# Altium schematic symbol library sm_diode.SchLib: 23 symbols
Pins are listed as number, name and electrical type; pins without a type are passive.

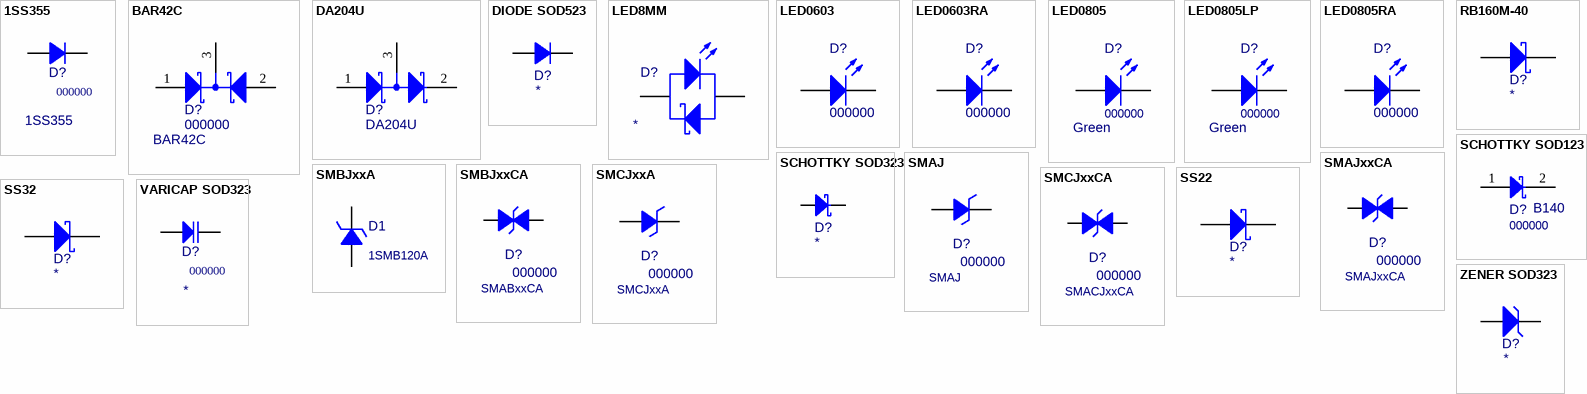
[diagram p0: symbols 1SS355 to ZENER SOD323]

## 1SS355
designator D?, comment 000000  value 1SS355
Schottky Barrier Diode; PN: 000000; Package: SOD-323; ExtraInfo: *
footprint SOD-323 (Molded Diode, 2-Leads)
pins: 1 A, 2 K

## BAR42C
designator D?, comment 000000  value BAR42C
Schottky Barrier Double Diode; PN: 000000; Package: SOT-23; ExtraInfo: *
footprint SOT-23 (SOT23, 3-Leads, Body 3.0x2.8mm (max), Pitch 0.95mm, IPC High Density)
pins: 1 A1, 2 A2, 3 K

## DA204U
designator D?
Schottky Barrier Double Diode; Value: DA204U; PN: *; Package: *; ExtraInfo: *
footprint SOT-323 (SC-70/SOT323)
pins: 1 A1, 2 A2, 3 K

## DIODE SOD523
designator D?
Diode SOD53 Package; PN: *; Value: *; Package: *; ExtraInfo: *
footprint SOD-523 (Molded Diode, 2-Leads)
pins: 1 A, 2 K

## LED8MM
designator D?
LED SMD 8MM; Package: *; PN: *; Value: *; ExtraInfo: *
footprint LED0805 (Chip LED 0805)
footprint LED-8MM (SMD LED ROUND 8MM)
footprint LED-8MM-B (SMD LED ROUND 8MM SLUG INSULATED)
pins: 1 A, 2 K

## LED0603
designator D?, comment 000000
LED SMD 0603; Value: LED0603; PN: 000000; Package: 0603; ExtraInfo: *
footprint LED0603M (Chip LED 0603 - Medium Density)
footprint LED0603H (Chip LED 0603 - High Density)
pins: 1 A, 2 K

## LED0603RA
designator D?, comment 000000
LED SMD 0603; Value: LED0603; PN: 000000; Package: 0603; ExtraInfo: *; MF: *; MF PN: *
footprint LED0603-GREEN-RA-M (Chip LED 0603 - Right Angle - Medium Density)
footprint LED0603-RED-RA-M (Chip LED 0603 - Right Angle - Medium Density)
pins: 1 A, 2 K

## LED0805
designator D?, comment 000000  value Green
LED SMD 0805; Package: 0805; PN: 000000; ExtraInfo: *
footprint LED0805 (Chip LED 0805)
footprint LED0805L (Chip LED 0805 - Low Density)
pins: 1 A, 2 K

## LED0805LP
designator D?, comment 000000  value Green
LED SMD 0805 Whit Light Pipe; Package: 0805; PN: 000000; ExtraInfo: *
footprint LED0805L LP (Chip LED 0805 - With Light Pipe - Low Density)
pins: 1 A, 2 K

## LED0805RA
designator D?, comment 000000
LED SMD 0805 Right Angle; Value: Green; PN: 000000; Package: 0805; ExtraInfo: *
footprint LED0805 (Chip LED 0805)
footprint LED0805-RA-L (Chip LED 0805 - Right Angle, Low Density)
pins: 1 A, 2 K

## RB160M-40
designator D?
Schottky Barrier Diode; Value: RB160M-40; PN: *; Package: *; ExtraInfo: *
footprint SOD-123 (Molded Diode, 2-Leads)
pins: 1 A, 2 K

## SCHOTTKY SOD123
designator D?, comment 000000  value B140
Schottky Barrier Diode SOD 123 Package; Package: SOD123; PN: 000000; ExtraInfo: *
footprint SOD-123 (Molded Diode, 2-Leads)
pins: 1 A, 2 K

## SCHOTTKY SOD323
designator D?
Schottky Barrier Diode SOD 323 Package; PN: *; Package: *; ExtraInfo: *
footprint SOD-323 (Molded Diode, 2-Leads)
pins: 1 A, 2 K

## SMAJ
designator D?, comment 000000  value SMAJ
SMT Transiet Voltage Suppressor; PN: 000000; Package: SMA; ExtraInfo: *
footprint DO-214AC (Molded Diode, 2-Leads, Body 4.3x2.6mm, IPC High Density)
pins: 1 A, 2 K

## SMAJxxCA
designator D?, comment 000000  value SMAJxxCA
SMT Bidirectional Transiet Voltage Suppressor; PN: 000000; Package: SMA; ExtraInfo: *
footprint DO-214AC-NP (Molded Diode, 2-Leads, Body 4.3x2.6mm, IPC Medium Density)
footprint DO-214AC-NP-HV (Molded Diode, 2-Leads, Body 4.3x2.6mm, High Voltage)
pins: 1 A, 2 K

## SMBJxxA
designator D1, comment value 1SMB120A  (hidden comment: 000000)
SMT Transiet Voltage Suppressor; MF: Littelfuse Inc; MF PN: 1SMB120AT3G; PN: 000000; Package: SMB; ExtraInfo: *
footprint DO-214AA (Molded Diode, 2-Leads, Body 4.3x3.6mm, IPC High Density)
pins: 1 A, 2 K

## SMBJxxCA
designator D?, comment 000000  value SMABxxCA
SMT Bidirectional Transiet Voltage Suppressor; PN: 000000; Package: SMB; ExtraInfo: *; MF: *; MF PN: *; Price: *; Digi-Key PN: *
footprint DO-214AA-NP (Molded Diode, 2-Leads, Body 4.3x3.6mm, IPC High Density)
pins: 1 A, 2 K

## SMCJxxA
designator D?, comment 000000  value SMCJxxA
SMT Transiet Voltage Suppressor; PN: 000000; Package: SMC; ExtraInfo: *
footprint DO-214AB (Molded Diode, 2-Leads, Body 6.9x6.1mm, IPC Medium Density)
pins: 1 A, 2 K

## SMCJxxCA
designator D?, comment 000000  value SMACJxxCA
SMT Bidirectional Transiet Voltage Suppressor; PN: 000000; Package: SMB; ExtraInfo: *; MF: *; MF PN: *; Price: *; Digi-Key PN: *
footprint DO-214AB-NP (Molded Diode, 2-Leads, Body 6.9x6.1mm, IPC Medium Density)
pins: 1 A, 2 K

## SS22
designator D?
Schottky Barrier Diode; Value: *; Package: *; PN: *; ExtraInfo: *
footprint DO-214AA (Molded Diode, 2-Leads, Body 4.3x3.6mm, IPC High Density)
pins: 1 A, 2 K

## SS32
designator D?
Schottky Barrier Diode; Value: *; PN: *; Package: *; ExtraInfo: *
footprint DO-214AB (Molded Diode, 2-Leads, Body 6.9x6.1mm, IPC Medium Density)
pins: 1 A, 2 K

## VARICAP SOD323
designator D?, comment 000000
Variable Capacitance Diode; PN: 000000; Package: SOD-323; ExtraInfo: *; Value: *
footprint SOD-323 (Molded Diode, 2-Leads)
pins: 1 A, 2 K

## ZENER SOD323
designator D?
Zener Diode SOD323 Package; PN: *; Value: *; Package: *; ExtraInfo: *
footprint SOD-323 (Molded Diode, 2-Leads)
pins: 1 A, 2 K